# Altium schematic symbol library DS3231MZ+.SCHLIB: 1 symbol
Pins are listed as number, name and electrical type; pins without a type are passive.

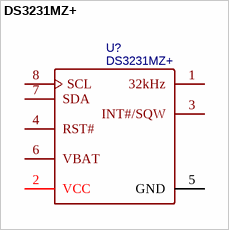
[diagram p0: symbol DS3231MZ+]

## DS3231MZ+
designator U?
BOM_Manufacturer: MAXIM; BOM_Supplier: LCSC; BOM_Manufacturer Part: DS3231MZ+; BOM_Supplier Part: C107410; BOM_JLCPCB Part Class: Extended Part; spicePre: U; spiceSymbolName: DS3231MZ+
footprint SOIC-8_L4.9-W3.9-P1.27-LS6.0-BL
pins: 1 32kHz, 2 VCC, 3 INT#/SQW, 4 RST#, 5 GND, 6 VBAT, 7 SDA, 8 SCL